# Altium integrated library ASFLMB-72.000MHZ-LY-T.IntLib: 1 symbol
Pins are listed as number, name and electrical type; pins without a type are passive.

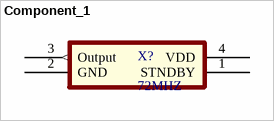
[diagram p0: symbol Component_1]

## Component_1
designator X?, comment 72MHZ
72 MHZ Osscilator; Buying URL:: https://www.mouser.co.uk/ProductDetail/ABRACON/ASFLMB-72000MHZ-LY-T?qs=CnD89xF1VSlxJU4Yo7AH%2Fg%3D%3D
footprint *XTAL_ASDM1-25.000MHZ-LC-T
pins: 1 STNDBY "Stand by", 2 GND (power), 3 Output (out) "72 MHZ clock out", 4 VDD (power) "3.3 v power"